# EAGLE library part WE-LAN-10/100-BASE-T,7490100161A (library wurth_elektronik_passive_rev16d)
WE-LAN LAN Transformer 10/100 Base T - Compliant with IEEE 802.3, IEEE 802.3af and IEEE 802.3at standards - SMT -- Ethernet -- Power over Ethernet -- 1 Gigabit Ethernet -- Compliant with most IC's for ethernet applications like Intel, AMD, Globespan and Realtek -- Hub, Router, Switch <http://katalog.we-online.de/media/images/v2/Family_WE-LAN.jpg> Details see: http://katalog.we-online.de/en/pbs/WE-LAN/7490100111A 2016 (C) Würth Elektronik
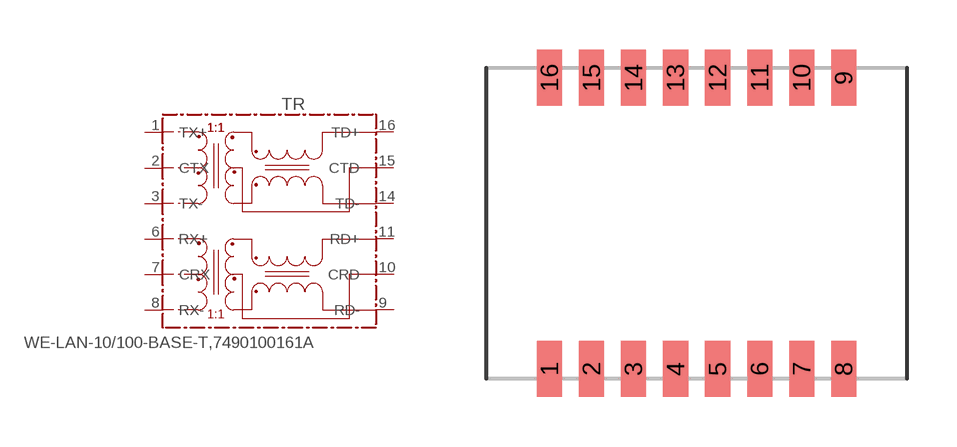
[diagram p214: symbol with the pads of 7490100161A; footprint 7490100161A]

Designator prefix TR

## WE-LAN-10/100-BASE-T,7490100161A  [7490100161A]
1  TX+
2  CTX
3  TX-
6  RX+
7  CRX
8  RX-
9  RD-
10  CRD
11  RD+
14  TD-
15  CTD
16  TD+

## Footprint 7490100161A (pad centres in mm)
smd 0.76 x 1.7: 1 -4.445,-4.4; 2 -3.175,-4.4; 3 -1.905,-4.4; 4 -0.635,-4.4; 5 0.635,-4.4; 6 1.905,-4.4; 7 3.175,-4.4; 8 4.445,-4.4; 9 4.445,4.4; 10 3.175,4.4; 11 1.905,4.4; 12 0.635,4.4; 13 -0.635,4.4; 14 -1.905,4.4; 15 -3.175,4.4; 16 -4.445,4.4